# Altium schematic symbol library TestPont.SchLib: 1 symbol
Pins are listed as number, name and electrical type; pins without a type are passive.

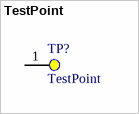
[diagram p0: symbol TestPoint]

## TestPoint
designator TP?
footprint testpoint
pins: 1